# Altium footprint library SHUNT_S-STD.PcbLib: 1 footprints
Each footprint in its own frame and in the unit in brackets; x right, y up, seen from the top. Pads: shape width x height; smd on the part's side, far side on the other; paste and mask are expansions set on the pad; w line width, h text height; cw(c..) or ccw(c..) is an arc to the next point about the centre after c.
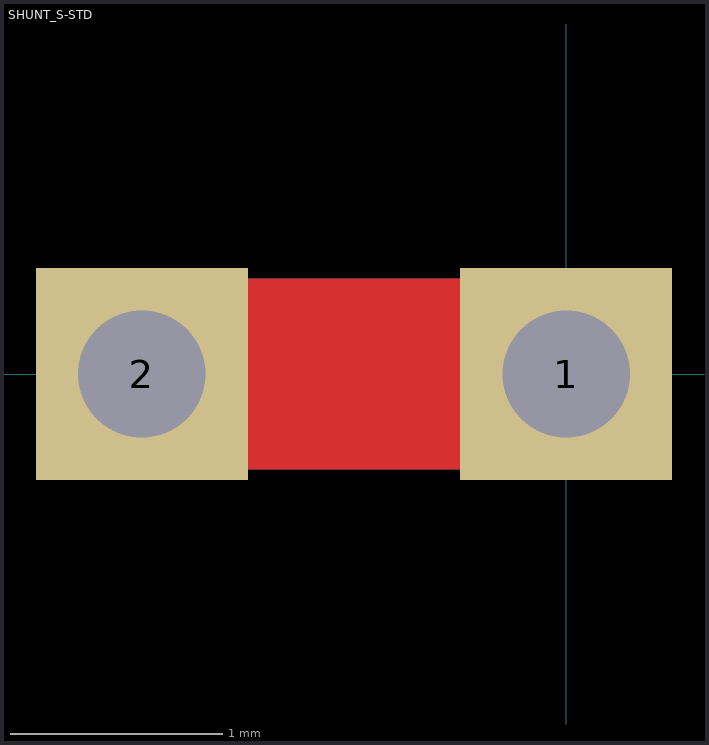
[diagram p0: the footprint, top view; thin cyan lines are the x and y axes]

## SHUNT_S-STD [mm]
pads (2):
  rect 1x1 / inner round 1 / far side rect 1x1 hole 0.6: 1(0,0) 2(-2,0)
Top Layer:
  lines w0.9: -2,0 0,0
Bottom Layer:
  lines w0.9: -2,0 0,0